# Altium schematic symbol library walkeeg_lib.SchLib: 3 symbols
Pins are listed as number, name and electrical type; pins without a type are passive.

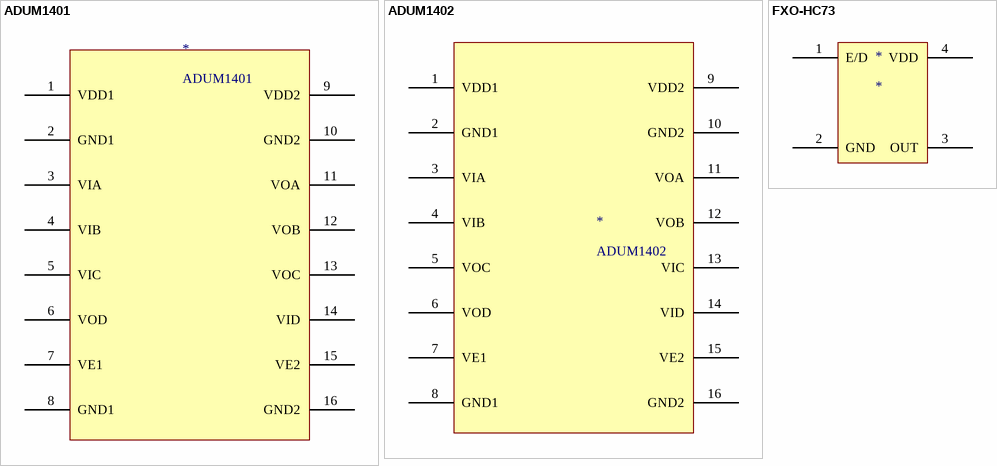
[diagram p0: symbols ADUM1401 to FXO-HC73]

## ADUM1401
designator *
ADI isolation
footprint SOIC_W
pins: 1 VDD1, 2 GND1, 3 VIA, 4 VIB, 5 VIC, 6 VOD, 7 VE1, 8 GND1, 9 VDD2, 10 GND2, 11 VOA, 12 VOB, 13 VOC, 14 VID, 15 VE2, 16 GND2

## ADUM1402
designator *
footprint SOIC_W
pins: 1 VDD1, 2 GND1, 3 VIA, 4 VIB, 5 VOC, 6 VOD, 7 VE1, 8 GND1, 9 VDD2, 10 GND2, 11 VOA, 12 VOB, 13 VIC, 14 VID, 15 VE2, 16 GND2

## FXO-HC73
designator *
footprint PCBComponent_1
pins: 1 E/D, 2 GND, 3 OUT, 4 VDD